# EAGLE library part STE100P (library ste100p)
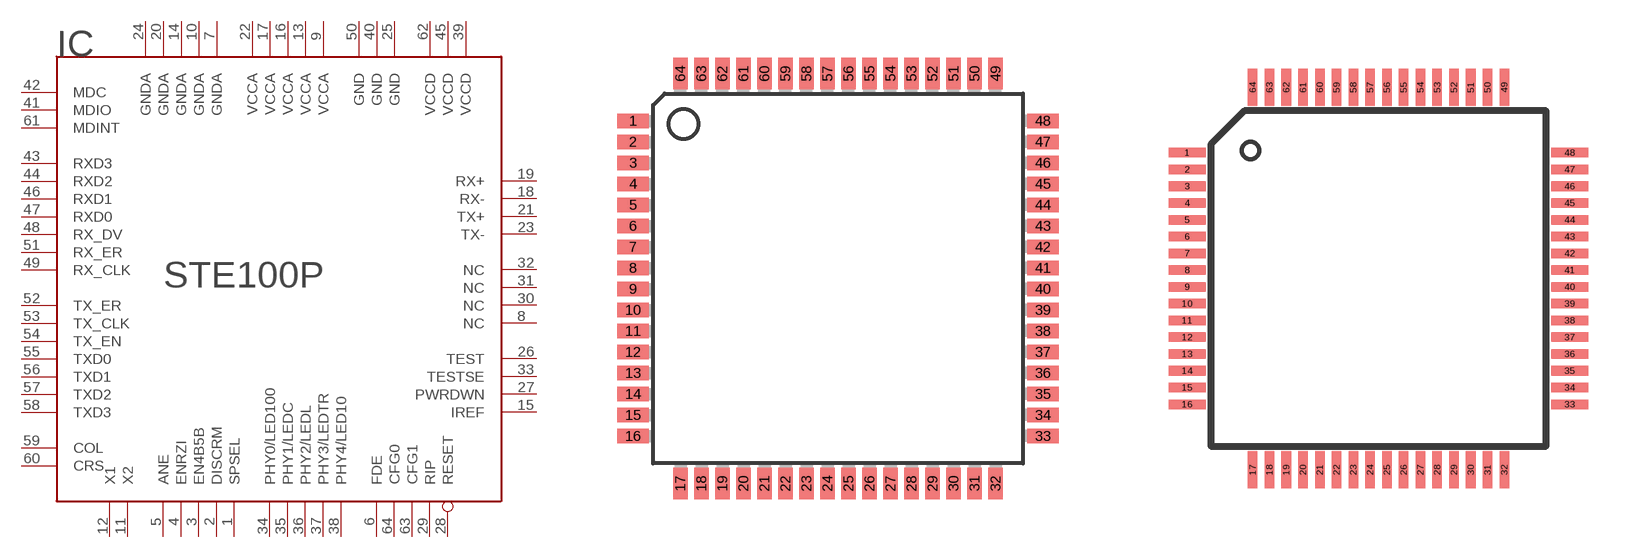
[diagram p0: symbol with the pads of TQFP64; footprints TQFP64, LQFP64]

Designator prefix IC

## STE100PTQFP64  [TQFP64]
1  SPSEL  in
2  DISCRM  in
3  EN4B5B  in
4  ENRZI  in
5  ANE  in
6  FDE  in
7  GNDA  sup
8  NC
9  VCCA  sup
10  GNDA  sup
11  X2  out
12  X1  in
13  VCCA  sup
14  GNDA  sup
15  IREF  out
16  VCCA  sup
17  VCCA  sup
18  RX-  in
19  RX+  in
20  GNDA  sup
21  TX+  out
22  VCCA  sup
23  TX-  out
24  GNDA  sup
25  GND  sup
26  TEST
27  PWRDWN  in
28  RESET  in
29  RIP  out
30  NC
31  NC
32  NC
33  TESTSE
34  PHY0/LED100
35  PHY1/LEDC
36  PHY2/LEDL
37  PHY3/LEDTR
38  PHY4/LED10
39  VCCD  sup
40  GND  sup
41  MDIO
42  MDC  in
43  RXD3  out
44  RXD2  out
45  VCCD  sup
46  RXD1  out
47  RXD0  out
48  RX_DV  out
49  RX_CLK  out
50  GND  sup
51  RX_ER  out
52  TX_ER  in
53  TX_CLK
54  TX_EN  in
55  TXD0  in
56  TXD1  in
57  TXD2  in
58  TXD3  in
59  COL  out
60  CRS  out
61  MDINT  out
62  VCCD  sup
63  CFG1  in
64  CFG0  in

## STE100P-LQFP64  [LQFP64]
Pads as for TQFP64

## Footprint TQFP64 (pad centres in mm)
Thin Plasic Quad Flat Package Updated from atml.lbr 17.01.2005 alf@cadsoft.de
smd 1.194 x 0.559: 1 -7.8,6; 2 -7.8,5.2; 3 -7.8,4.4; 4 -7.8,3.6; 5 -7.8,2.8; 6 -7.8,2; 7 -7.8,1.2; 8 -7.8,0.4; 9 -7.8,-0.4; 10 -7.8,-1.2; 11 -7.8,-2; 12 -7.8,-2.8; 13 -7.8,-3.6; 14 -7.8,-4.4; 15 -7.8,-5.2; 16 -7.8,-6; 33 7.8,-6; 34 7.8,-5.2; 35 7.8,-4.4; 36 7.8,-3.6; 37 7.8,-2.8; 38 7.8,-2; 39 7.8,-1.2; 40 7.8,-0.4; 41 7.8,0.4; 42 7.8,1.2; 43 7.8,2; 44 7.8,2.8; 45 7.8,3.6; 46 7.8,4.4; 47 7.8,5.2; 48 7.8,6
smd 0.559 x 1.194: 17 -6,-7.8; 18 -5.2,-7.8; 19 -4.4,-7.8; 20 -3.6,-7.8; 21 -2.8,-7.8; 22 -2,-7.8; 23 -1.2,-7.8; 24 -0.4,-7.8; 25 0.4,-7.8; 26 1.2,-7.8; 27 2,-7.8; 28 2.8,-7.8; 29 3.6,-7.8; 30 4.4,-7.8; 31 5.2,-7.8; 32 6,-7.8; 49 6,7.8; 50 5.2,7.8; 51 4.4,7.8; 52 3.6,7.8; 53 2.8,7.8; 54 2,7.8; 55 1.2,7.8; 56 0.4,7.8; 57 -0.4,7.8; 58 -1.2,7.8; 59 -2,7.8; 60 -2.8,7.8; 61 -3.6,7.8; 62 -4.4,7.8; 63 -5.2,7.8; 64 -6,7.8

## Footprint LQFP64 (pad centres in mm)
Plastic Low Profile Quad Flat Package. From ti_msp430.lbr
smd 1.1 x 0.285: 1 -0.62,8.83; 2 -0.62,8.33; 3 -0.62,7.83; 4 -0.62,7.33; 5 -0.62,6.83; 6 -0.62,6.33; 7 -0.62,5.83; 8 -0.62,5.33; 9 -0.62,4.83; 10 -0.62,4.33; 11 -0.62,3.83; 12 -0.62,3.33; 13 -0.62,2.83; 14 -0.62,2.33; 15 -0.62,1.83; 16 -0.62,1.33; 33 10.78,1.33; 34 10.78,1.83; 35 10.78,2.33; 36 10.78,2.83; 37 10.78,3.33; 38 10.78,3.83; 39 10.78,4.33; 40 10.78,4.83; 41 10.78,5.33; 42 10.78,5.83; 43 10.78,6.33; 44 10.78,6.83; 45 10.78,7.33; 46 10.78,7.83; 47 10.78,8.33; 48 10.78,8.83
smd 0.285 x 1.1: 17 1.33,-0.62; 18 1.83,-0.62; 19 2.33,-0.62; 20 2.83,-0.62; 21 3.33,-0.62; 22 3.83,-0.62; 23 4.33,-0.62; 24 4.83,-0.62; 25 5.33,-0.62; 26 5.83,-0.62; 27 6.33,-0.62; 28 6.83,-0.62; 29 7.33,-0.62; 30 7.83,-0.62; 31 8.33,-0.62; 32 8.83,-0.62; 49 8.83,10.78; 50 8.33,10.78; 51 7.83,10.78; 52 7.33,10.78; 53 6.83,10.78; 54 6.33,10.78; 55 5.83,10.78; 56 5.33,10.78; 57 4.83,10.78; 58 4.33,10.78; 59 3.83,10.78; 60 3.33,10.78; 61 2.83,10.78; 62 2.33,10.78; 63 1.83,10.78; 64 1.33,10.78